# Altium footprint library Picoblade 8POS RA SMD.PcbLib: 1 footprints
Each footprint in its own frame and in the unit in brackets; x right, y up, seen from the top. Pads: shape width x height; smd on the part's side, far side on the other; paste and mask are expansions set on the pad; w line width, h text height; cw(c..) or ccw(c..) is an arc to the next point about the centre after c.
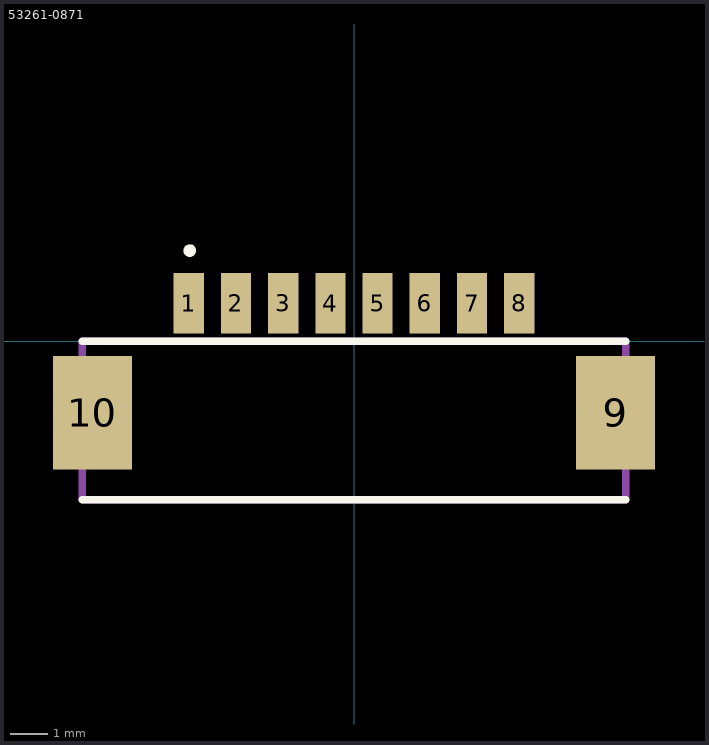
[diagram p0: the footprint, top view; thin cyan lines are the x and y axes]

## 53261-0871 [mm]
pads (10):
  rect 0.8x1.6 smd: 1(-4.375,1.004) 2(-3.125,1.004) 3(-1.875,1.004) 4(-0.625,1.004) 5(0.625,1.004) 6(1.875,1.004) 7(3.125,1.004) 8(4.375,1.004)
  rect 2.1x3 smd: 9(6.925,-1.896) 10(-6.925,-1.896)
L26-Silk Screen Top (Multiple PADS layers...):
  circle w0.2: c-4.349,2.399 r0.066
  lines w0.2: -7.19,-4.2 7.19,-4.2 ; -7.19,0 7.19,0
L15 (Multiple PADS layers...):
  lines w0.2: -7.19,-4.2 7.19,-4.2 7.19,0 -7.19,0 -7.19,-4.2